# Altium integrated library ATXK-H11-C-32.768kHz-E50-T3.IntLib: 1 symbol
Pins are listed as number, name and electrical type; pins without a type are passive.

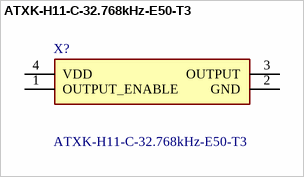
[diagram p0: symbol ATXK-H11-C-32.768kHz-E50-T3]

## ATXK-H11-C-32.768kHz-E50-T3
designator X?
3225 4-SMD TTCXO 32.768kHz +/-5ppm -40C ~ 85C CMOS 3.3V; Manufacturer_Name: ABRACON; Geometry.Height: 1.46mm; Mouser Part Number: 815-ATH11C32768E50T3; Mouser Price/Stock: https://www.mouser.co.uk/ProductDetail/ABRACON/ATXK-H11-C-32.768kHz-E50-T3?qs=rQFj71Wb1eXJmtoyGkhpmA%3D%3D; Manufacturer_Part_Number: ATXK-H11-C-32.768kHz-E50-T3; Datasheet Link: https://abracon.com/datasheets/ATXK-H11.pdf
footprint ATXKH11C32768kHzE50T3
pins: 1 OUTPUT_ENABLE, 2 GND, 3 OUTPUT, 4 VDD